# EAGLE library part L9CON (library trainlib)
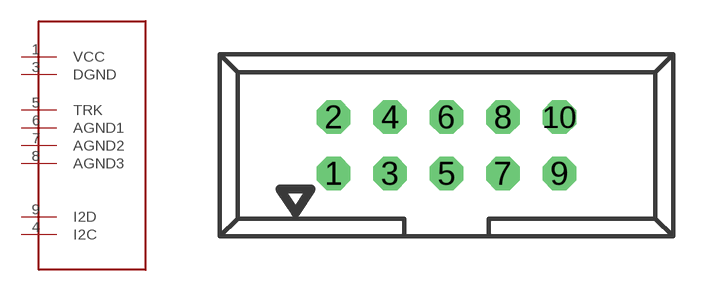
[diagram p0: symbol with the pads of CON10M; footprint CON10M]

Designator prefix -

## L9CONLEFT  [CON10M]
1  VCC  pwr
3  DGND  pwr
4  I2C
5  TRK  pwr
6  AGND1  pwr
7  AGND2  pwr
8  AGND3  pwr
9  I2D

## L9CONRIGHT  [CON10M]
2  VCC  pwr
4  DGND  pwr
5  I2C
6  TRK  pwr
7  AGND1  pwr
8  AGND2  pwr
9  AGND3  pwr
10  I2D

## Footprint CON10M (pad centres in mm)
10-pin dual-line ribbon cable male header with 2.54mm spacing
drill 1 octagon: 1 -5.08,-1.27; 2 -5.08,1.27; 3 -2.54,-1.27; 4 -2.54,1.27; 5 0,-1.27; 6 0,1.27; 7 2.54,-1.27; 8 2.54,1.27; 9 5.08,-1.27; 10 5.08,1.27